# EAGLE library part TEXAS_INSTRUMENTS-CLOCK_GENERATOR-PLL1707_DBQ_20 (library Module_ICs)
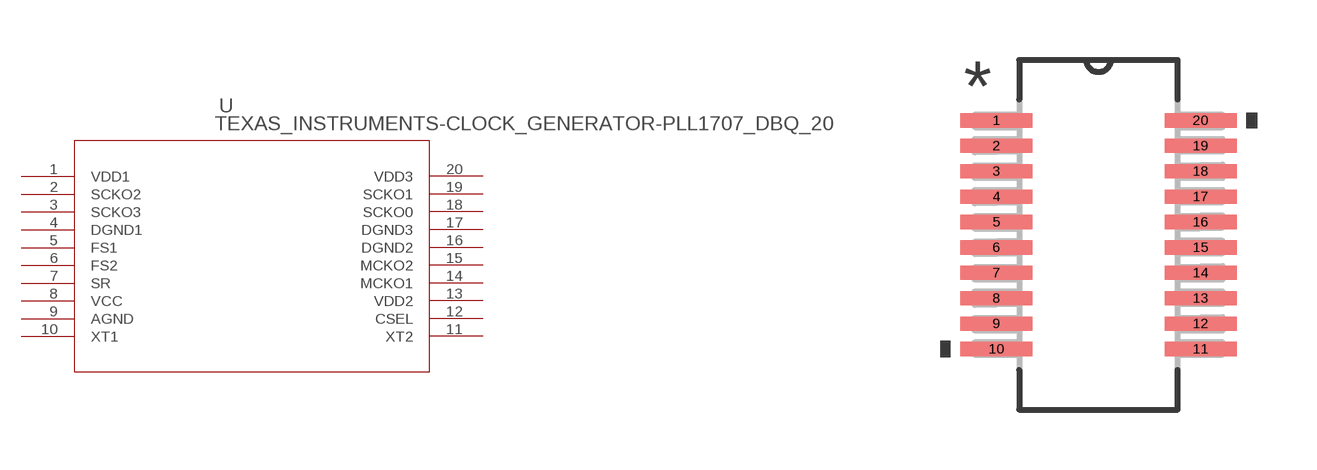
[diagram p47: symbol with the pads of TEXAS_INSTRUMENTS-CLOCK_GENERATOR-PLL1707_DBQ_20; footprint TEXAS_INSTRUMENTS-CLOCK_GENERATOR-PLL1707_DBQ_20]

Designator prefix U

## TEXAS_INSTRUMENTS-CLOCK_GENERATOR-PLL1707_DBQ_20 (DATASHEETURL: httpwww.ti.comlitgpnPLL1707; FAMILY_NAME: AUDIO CLOCKS; GENERIC_PART_NUMBER: PLL1707; INDUSTRY_STD_PKG_TYPE: SSOPQSOP; MANUFACTURER: Texas Instruments; MANUFACTURER_PART_NUMBER: pll1707_dbq_20; PACKAGE_DESIGNATOR: DBQ; PIN_COUNT: 20; VENDOR: Texas Instruments)  [TEXAS_INSTRUMENTS-CLOCK_GENERATOR-PLL1707_DBQ_20]
1  VDD1  pwr
2  SCKO2  out
3  SCKO3  out
4  DGND1  pwr
5  FS1  in
6  FS2  in
7  SR  in
8  VCC  pwr
9  AGND  pwr
10  XT1  in
11  XT2  out
12  CSEL  in
13  VDD2  pwr
14  MCKO1  out
15  MCKO2  out
16  DGND2  pwr
17  DGND3  pwr
18  SCKO0  out
19  SCKO1  out
20  VDD3  pwr

## Footprint TEXAS_INSTRUMENTS-CLOCK_GENERATOR-PLL1707_DBQ_20 (pad centres in mm)
smd 1.803 x 0.356: 1 -2.553,2.857; 2 -2.553,2.223; 3 -2.553,1.587; 4 -2.553,0.953; 5 -2.553,0.318; 6 -2.553,-0.318; 7 -2.553,-0.953; 8 -2.553,-1.587; 9 -2.553,-2.223; 10 -2.553,-2.857; 11 2.553,-2.857; 12 2.553,-2.223; 13 2.553,-1.587; 14 2.553,-0.953; 15 2.553,-0.318; 16 2.553,0.318; 17 2.553,0.953; 18 2.553,1.587; 19 2.553,2.223; 20 2.553,2.857